# Altium schematic symbol library WCAP-FTX2.SchLib: 108 symbols (part 2 of 3)
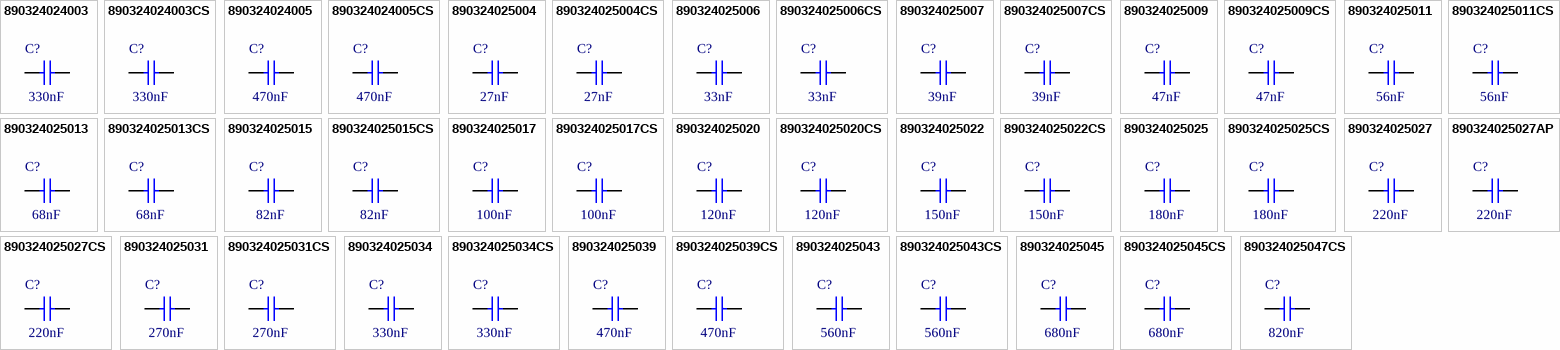
[diagram p3: symbols 890324024003 to 890324025047CS]

## 890324025009
designator C?, comment 47nF
WCAP-FTX2 Film Capacitor, THT, L18 x W5 x H11mm, 47nF, 275V; Manufacturer Part Number: 890324025009; Manufacturer: Wurth Elektronik; Capacitance Tolerance: +/-10%; Dissipation Factor @1kHz: 0.1%; Dissipation Factor @100kHz: 0.5%; Insulation Resistance: 30GΩ; Pitch: 15mm; Rate of Voltage Rise: 220V/μs; Technical Reference: MX2P015473K275ASPB16000; Category: Film Capacitors; Match Code: WCAP-FTX2; ComponentLink1Description: Website Link; ComponentLink1URL: https://www.we-online.com/redexpert/article/890324025009?ad; ComponentLink2Description: Datasheet Link; ComponentLink2URL: https://www.we-online.com/redexpert/spec/890324025009?ad; Mount: Through Hole; Min Operating Temperature: -40°C; Max Operating Temperature: 105°C; Packaging: Carton; Length: 18mm; Width: 5mm; Height: 11mm; Capacitance: 47nF; Dissipation Factor @10kHz: 0.1%; Rated Voltage (AC): 275V
footprint WCAP-FTX2_L18W5H11
simulation model 890324025009_47nF
pins: 1, 2

## 890324025009CS
designator C?, comment 47nF
WCAP-FTX2 Film Capacitor, THT, L18 x W5 x H11mm, 47nF, 275V; Manufacturer Part Number: 890324025009CS; Manufacturer: Wurth Elektronik; Capacitance Tolerance: +/-10%; Dissipation Factor @1kHz: 0.1%; Dissipation Factor @100kHz: 0.5%; Insulation Resistance: 30GΩ; Pitch: 15mm; Rate of Voltage Rise: 220V/μs; Technical Reference: MX2P015473K275ACPP46004; Category: Film Capacitors; Match Code: WCAP-FTX2; ComponentLink1Description: Website Link; ComponentLink1URL: https://www.we-online.com/redexpert/article/890324025009CS?ad; ComponentLink2Description: Datasheet Link; ComponentLink2URL: https://www.we-online.com/redexpert/spec/890324025009CS?ad; Mount: Through Hole; Min Operating Temperature: -40°C; Max Operating Temperature: 105°C; Packaging: Carton; Length: 18mm; Width: 5mm; Height: 11mm; Capacitance: 47nF; Dissipation Factor @10kHz: 0.1%; Rated Voltage (AC): 275V
footprint WCAP-FTX2_L18W5H11
simulation model 890324025009CS_47nF
pins: 1, 2

## 890324025011
designator C?, comment 56nF
WCAP-FTX2 Film Capacitor, THT, L18 x W5 x H11mm, 56nF, 275V; Manufacturer Part Number: 890324025011; Manufacturer: Wurth Elektronik; Capacitance Tolerance: +/-10%; Dissipation Factor @1kHz: 0.1%; Dissipation Factor @100kHz: 0.5%; Insulation Resistance: 30GΩ; Pitch: 15mm; Rate of Voltage Rise: 250V/μs; Technical Reference: MX2P015563K275ASPB16000; Category: Film Capacitors; Match Code: WCAP-FTX2; ComponentLink1Description: Website Link; ComponentLink1URL: https://www.we-online.com/redexpert/article/890324025011?ad; ComponentLink2Description: Datasheet Link; ComponentLink2URL: https://www.we-online.com/redexpert/spec/890324025011?ad; Mount: Through Hole; Min Operating Temperature: -40°C; Max Operating Temperature: 105°C; Packaging: Carton; Length: 18mm; Width: 5mm; Height: 11mm; Capacitance: 56nF; Dissipation Factor @10kHz: 0.1%; Rated Voltage (AC): 275V
footprint WCAP-FTX2_L18W5H11
simulation model 890324025011_56nF
pins: 1, 2

## 890324025011CS
designator C?, comment 56nF
WCAP-FTX2 Film Capacitor, THT, L18 x W5 x H11mm, 56nF, 275V; Manufacturer Part Number: 890324025011CS; Manufacturer: Wurth Elektronik; Capacitance Tolerance: +/-10%; Dissipation Factor @1kHz: 0.1%; Dissipation Factor @100kHz: 0.5%; Insulation Resistance: 30GΩ; Pitch: 15mm; Rate of Voltage Rise: 250V/μs; Technical Reference: MX2P015563K275ACPP46004; Category: Film Capacitors; Match Code: WCAP-FTX2; ComponentLink1Description: Website Link; ComponentLink1URL: https://www.we-online.com/redexpert/article/890324025011CS?ad; ComponentLink2Description: Datasheet Link; ComponentLink2URL: https://www.we-online.com/redexpert/spec/890324025011CS?ad; Mount: Through Hole; Min Operating Temperature: -40°C; Max Operating Temperature: 105°C; Packaging: Carton; Length: 18mm; Width: 5mm; Height: 11mm; Capacitance: 56nF; Dissipation Factor @10kHz: 0.1%; Rated Voltage (AC): 275V
footprint WCAP-FTX2_L18W5H11
simulation model 890324025011CS_56nF
pins: 1, 2

## 890324025013
designator C?, comment 68nF
WCAP-FTX2 Film Capacitor, THT, L18 x W6 x H12mm, 68nF, 275V; Manufacturer Part Number: 890324025013; Manufacturer: Wurth Elektronik; Capacitance Tolerance: +/-10%; Dissipation Factor @1kHz: 0.1%; Dissipation Factor @100kHz: 0.5%; Insulation Resistance: 30GΩ; Pitch: 15mm; Rate of Voltage Rise: 270V/μs; Technical Reference: MX2P015683K275ASPB16000; Category: Film Capacitors; Match Code: WCAP-FTX2; ComponentLink1Description: Website Link; ComponentLink1URL: https://www.we-online.com/redexpert/article/890324025013?ad; ComponentLink2Description: Datasheet Link; ComponentLink2URL: https://www.we-online.com/redexpert/spec/890324025013?ad; Mount: Through Hole; Min Operating Temperature: -40°C; Max Operating Temperature: 105°C; Packaging: Carton; Length: 18mm; Width: 6mm; Height: 12mm; Capacitance: 68nF; Dissipation Factor @10kHz: 0.1%; Rated Voltage (AC): 275V
footprint WCAP-FTX2_L18W6H12
simulation model 890324025013_68nF
pins: 1, 2

## 890324025013CS
designator C?, comment 68nF
WCAP-FTX2 Film Capacitor, THT, L18 x W6 x H12mm, 68nF, 275V; Manufacturer Part Number: 890324025013CS; Manufacturer: Wurth Elektronik; Capacitance Tolerance: +/-10%; Dissipation Factor @1kHz: 0.1%; Dissipation Factor @100kHz: 0.5%; Insulation Resistance: 30GΩ; Pitch: 15mm; Rate of Voltage Rise: 270V/μs; Technical Reference: MX2P015683K275ACPP46004; Category: Film Capacitors; Match Code: WCAP-FTX2; ComponentLink1Description: Website Link; ComponentLink1URL: https://www.we-online.com/redexpert/article/890324025013CS?ad; ComponentLink2Description: Datasheet Link; ComponentLink2URL: https://www.we-online.com/redexpert/spec/890324025013CS?ad; Mount: Through Hole; Min Operating Temperature: -40°C; Max Operating Temperature: 105°C; Packaging: Carton; Length: 18mm; Width: 6mm; Height: 12mm; Capacitance: 68nF; Dissipation Factor @10kHz: 0.1%; Rated Voltage (AC): 275V
footprint WCAP-FTX2_L18W6H12
simulation model 890324025013CS_68nF
pins: 1, 2

## 890324025015
designator C?, comment 82nF
WCAP-FTX2 Film Capacitor, THT, L18 x W6 x H12mm, 82nF, 275V; Manufacturer Part Number: 890324025015; Manufacturer: Wurth Elektronik; Capacitance Tolerance: +/-10%; Dissipation Factor @1kHz: 0.1%; Dissipation Factor @100kHz: 0.5%; Insulation Resistance: 30GΩ; Pitch: 15mm; Rate of Voltage Rise: 290V/μs; Technical Reference: MX2P015823K275ASPB16000; Category: Film Capacitors; Match Code: WCAP-FTX2; ComponentLink1Description: Website Link; ComponentLink1URL: https://www.we-online.com/redexpert/article/890324025015?ad; ComponentLink2Description: Datasheet Link; ComponentLink2URL: https://www.we-online.com/redexpert/spec/890324025015?ad; Mount: Through Hole; Min Operating Temperature: -40°C; Max Operating Temperature: 105°C; Packaging: Carton; Length: 18mm; Width: 6mm; Height: 12mm; Capacitance: 82nF; Dissipation Factor @10kHz: 0.1%; Rated Voltage (AC): 275V
footprint WCAP-FTX2_L18W6H12
simulation model 890324025015_82nF
pins: 1, 2

## 890324025015CS
designator C?, comment 82nF
WCAP-FTX2 Film Capacitor, THT, L18 x W6 x H12mm, 82nF, 275V; Manufacturer Part Number: 890324025015CS; Manufacturer: Wurth Elektronik; Capacitance Tolerance: +/-10%; Dissipation Factor @1kHz: 0.1%; Dissipation Factor @100kHz: 0.5%; Insulation Resistance: 30GΩ; Pitch: 15mm; Rate of Voltage Rise: 290V/μs; Technical Reference: MX2P015823K275ACPP46004; Category: Film Capacitors; Match Code: WCAP-FTX2; ComponentLink1Description: Website Link; ComponentLink1URL: https://www.we-online.com/redexpert/article/890324025015CS?ad; ComponentLink2Description: Datasheet Link; ComponentLink2URL: https://www.we-online.com/redexpert/spec/890324025015CS?ad; Mount: Through Hole; Min Operating Temperature: -40°C; Max Operating Temperature: 105°C; Packaging: Carton; Length: 18mm; Width: 6mm; Height: 12mm; Capacitance: 82nF; Dissipation Factor @10kHz: 0.1%; Rated Voltage (AC): 275V
footprint WCAP-FTX2_L18W6H12
simulation model 890324025015CS_82nF
pins: 1, 2

## 890324025017
designator C?, comment 100nF
WCAP-FTX2 Film Capacitor, THT, L18 x W6 x H12mm, 100nF, 275V; Manufacturer Part Number: 890324025017; Manufacturer: Wurth Elektronik; Capacitance Tolerance: +/-10%; Dissipation Factor @1kHz: 0.1%; Dissipation Factor @100kHz: 0.5%; Insulation Resistance: 30GΩ; Pitch: 15mm; Rate of Voltage Rise: 300V/μs; Technical Reference: MX2P015104K275ASPB16000; Category: Film Capacitors; Match Code: WCAP-FTX2; ComponentLink1Description: Website Link; ComponentLink1URL: https://www.we-online.com/redexpert/article/890324025017?ad; ComponentLink2Description: Datasheet Link; ComponentLink2URL: https://www.we-online.com/redexpert/spec/890324025017?ad; Mount: Through Hole; Min Operating Temperature: -40°C; Max Operating Temperature: 105°C; Packaging: Carton; Length: 18mm; Width: 6mm; Height: 12mm; Capacitance: 100nF; Dissipation Factor @10kHz: 0.1%; Rated Voltage (AC): 275V
footprint WCAP-FTX2_L18W6H12
simulation model 890324025017_100nF
pins: 1, 2

## 890324025017CS
designator C?, comment 100nF
WCAP-FTX2 Film Capacitor, THT, L18 x W6 x H12mm, 100nF, 275V; Manufacturer Part Number: 890324025017CS; Manufacturer: Wurth Elektronik; Capacitance Tolerance: +/-10%; Dissipation Factor @1kHz: 0.1%; Dissipation Factor @100kHz: 0.5%; Insulation Resistance: 30GΩ; Pitch: 15mm; Rate of Voltage Rise: 300V/μs; Technical Reference: MX2P015104K275ACPP46004; Category: Film Capacitors; Match Code: WCAP-FTX2; ComponentLink1Description: Website Link; ComponentLink1URL: https://www.we-online.com/redexpert/article/890324025017CS?ad; ComponentLink2Description: Datasheet Link; ComponentLink2URL: https://www.we-online.com/redexpert/spec/890324025017CS?ad; Mount: Through Hole; Min Operating Temperature: -40°C; Max Operating Temperature: 105°C; Packaging: Carton; Length: 18mm; Width: 6mm; Height: 12mm; Capacitance: 100nF; Dissipation Factor @10kHz: 0.1%; Rated Voltage (AC): 275V
footprint WCAP-FTX2_L18W6H12
simulation model 890324025017CS_100nF
pins: 1, 2

## 890324025020
designator C?, comment 120nF
WCAP-FTX2 Film Capacitor, THT, L18 x W7.5 x H13.5mm, 120nF, 275V; Manufacturer Part Number: 890324025020; Manufacturer: Wurth Elektronik; Capacitance Tolerance: +/-10%; Dissipation Factor @1kHz: 0.1%; Dissipation Factor @10kHz: 0.2%; Dissipation Factor @100kHz: 2%; Insulation Resistance: 30GΩ; Pitch: 15mm; Rate of Voltage Rise: 300V/μs; Technical Reference: MX2P015124K275ASPB16000; Category: Film Capacitors; Match Code: WCAP-FTX2; ComponentLink1Description: Website Link; ComponentLink1URL: https://www.we-online.com/redexpert/article/890324025020?ad; ComponentLink2Description: Datasheet Link; ComponentLink2URL: https://www.we-online.com/redexpert/spec/890324025020?ad; Mount: Through Hole; Min Operating Temperature: -40°C; Max Operating Temperature: 105°C; Packaging: Carton; Length: 18mm; Width: 7.5mm; Height: 13.5mm; Capacitance: 120nF; Rated Voltage (AC): 275V
footprint WCAP-FTX2_L18W7.5H13.5
simulation model 890324025020_120nF
pins: 1, 2

## 890324025020CS
designator C?, comment 120nF
WCAP-FTX2 Film Capacitor, THT, L18 x W7.5 x H13.5mm, 120nF, 275V; Manufacturer Part Number: 890324025020CS; Manufacturer: Wurth Elektronik; Capacitance Tolerance: +/-10%; Dissipation Factor @1kHz: 0.1%; Dissipation Factor @10kHz: 0.2%; Dissipation Factor @100kHz: 2%; Insulation Resistance: 30GΩ; Pitch: 15mm; Rate of Voltage Rise: 300V/μs; Technical Reference: MX2P015124K275ACPP46004; Category: Film Capacitors; Match Code: WCAP-FTX2; ComponentLink1Description: Website Link; ComponentLink1URL: https://www.we-online.com/redexpert/article/890324025020CS?ad; ComponentLink2Description: Datasheet Link; ComponentLink2URL: https://www.we-online.com/redexpert/spec/890324025020CS?ad; Mount: Through Hole; Min Operating Temperature: -40°C; Max Operating Temperature: 105°C; Packaging: Carton; Length: 18mm; Width: 7.5mm; Height: 13.5mm; Capacitance: 120nF; Rated Voltage (AC): 275V
footprint WCAP-FTX2_L18W7.5H13.5
simulation model 890324025020CS_120nF
pins: 1, 2

## 890324025022
designator C?, comment 150nF
WCAP-FTX2 Film Capacitor, THT, L18 x W6 x H12mm, 150nF, 275V; Manufacturer Part Number: 890324025022; Manufacturer: Wurth Elektronik; Capacitance Tolerance: +/-10%; Dissipation Factor @1kHz: 0.1%; Dissipation Factor @10kHz: 0.2%; Dissipation Factor @100kHz: 2%; Insulation Resistance: 30GΩ; Pitch: 15mm; Rate of Voltage Rise: 210V/μs; Technical Reference: MX2P015154K275ASPB16000; Category: Film Capacitors; Match Code: WCAP-FTX2; ComponentLink1Description: Website Link; ComponentLink1URL: https://www.we-online.com/redexpert/article/890324025022?ad; ComponentLink2Description: Datasheet Link; ComponentLink2URL: https://www.we-online.com/redexpert/spec/890324025022?ad; Mount: Through Hole; Min Operating Temperature: -40°C; Max Operating Temperature: 105°C; Packaging: Carton; Length: 18mm; Width: 6mm; Height: 12mm; Capacitance: 150nF; Rated Voltage (AC): 275V
footprint WCAP-FTX2_L18W6H12
simulation model 890324025022_150nF
pins: 1, 2

## 890324025022CS
designator C?, comment 150nF
WCAP-FTX2 Film Capacitor, THT, L18 x W6 x H12mm, 150nF, 275V; Manufacturer Part Number: 890324025022CS; Manufacturer: Wurth Elektronik; Capacitance Tolerance: +/-10%; Dissipation Factor @1kHz: 0.1%; Dissipation Factor @10kHz: 0.2%; Dissipation Factor @100kHz: 2%; Insulation Resistance: 30GΩ; Pitch: 15mm; Rate of Voltage Rise: 210V/μs; Technical Reference: MX2P015154K275ACPP46004; Category: Film Capacitors; Match Code: WCAP-FTX2; ComponentLink1Description: Website Link; ComponentLink1URL: https://www.we-online.com/redexpert/article/890324025022CS?ad; ComponentLink2Description: Datasheet Link; ComponentLink2URL: https://www.we-online.com/redexpert/spec/890324025022CS?ad; Mount: Through Hole; Min Operating Temperature: -40°C; Max Operating Temperature: 105°C; Packaging: Carton; Length: 18mm; Width: 6mm; Height: 12mm; Capacitance: 150nF; Rated Voltage (AC): 275V
footprint WCAP-FTX2_L18W6H12
simulation model 890324025022CS_150nF
pins: 1, 2

## 890324025025
designator C?, comment 180nF
WCAP-FTX2 Film Capacitor, THT, L18 x W6 x H12mm, 180nF, 275V; Manufacturer Part Number: 890324025025; Manufacturer: Wurth Elektronik; Capacitance Tolerance: +/-10%; Dissipation Factor @1kHz: 0.1%; Dissipation Factor @10kHz: 0.2%; Dissipation Factor @100kHz: 2%; Insulation Resistance: 30GΩ; Pitch: 15mm; Rate of Voltage Rise: 230V/μs; Technical Reference: MX2P015184K275ASPB15000; Category: Film Capacitors; Match Code: WCAP-FTX2; ComponentLink1Description: Website Link; ComponentLink1URL: https://www.we-online.com/redexpert/article/890324025025?ad; ComponentLink2Description: Datasheet Link; ComponentLink2URL: https://www.we-online.com/redexpert/spec/890324025025?ad; Mount: Through Hole; Min Operating Temperature: -40°C; Max Operating Temperature: 105°C; Packaging: Carton; Length: 18mm; Width: 6mm; Height: 12mm; Capacitance: 180nF; Rated Voltage (AC): 275V
footprint WCAP-FTX2_L18W6H12
simulation model 890324025025_180nF
pins: 1, 2

## 890324025025CS
designator C?, comment 180nF
WCAP-FTX2 Film Capacitor, THT, L18 x W6 x H12mm, 180nF, 275V; Manufacturer Part Number: 890324025025CS; Manufacturer: Wurth Elektronik; Capacitance Tolerance: +/-10%; Dissipation Factor @1kHz: 0.1%; Dissipation Factor @10kHz: 0.2%; Dissipation Factor @100kHz: 2%; Insulation Resistance: 30GΩ; Pitch: 15mm; Rate of Voltage Rise: 230V/μs; Technical Reference: MX2P015184K275ACPP45004; Category: Film Capacitors; Match Code: WCAP-FTX2; ComponentLink1Description: Website Link; ComponentLink1URL: https://www.we-online.com/redexpert/article/890324025025CS?ad; ComponentLink2Description: Datasheet Link; ComponentLink2URL: https://www.we-online.com/redexpert/spec/890324025025CS?ad; Mount: Through Hole; Min Operating Temperature: -40°C; Max Operating Temperature: 105°C; Packaging: Carton; Length: 18mm; Width: 6mm; Height: 12mm; Capacitance: 180nF; Rated Voltage (AC): 275V
footprint WCAP-FTX2_L18W6H12
simulation model 890324025025CS_180nF
pins: 1, 2

## 890324025027
designator C?, comment 220nF
WCAP-FTX2 Film Capacitor, THT, L18 x W6 x H11.5mm, 220nF, 275V; Manufacturer Part Number: 890324025027; Manufacturer: Wurth Elektronik; Capacitance Tolerance: +/-10%; Dissipation Factor @1kHz: 0.1%; Dissipation Factor @10kHz: 0.2%; Dissipation Factor @100kHz: 2%; Insulation Resistance: 30GΩ; Pitch: 15mm; Rate of Voltage Rise: 180V/μs; Technical Reference: MX2P015224K275ASPB15000; Category: Film Capacitors; Match Code: WCAP-FTX2; ComponentLink1Description: Website Link; ComponentLink1URL: https://www.we-online.com/redexpert/article/890324025027?ad; ComponentLink2Description: Datasheet Link; ComponentLink2URL: https://www.we-online.com/redexpert/spec/890324025027?ad; Mount: Through Hole; Min Operating Temperature: -40°C; Max Operating Temperature: 105°C; Packaging: Carton; Length: 18mm; Width: 6mm; Height: 11.5mm; Capacitance: 220nF; Rated Voltage (AC): 275V
footprint WCAP-FTX2_L18W6H11.5
simulation model 890324025027_220nF
pins: 1, 2

## 890324025027AP
designator C?, comment 220nF
WCAP-FTX2 Film Capacitor, THT, L18 x W6 x H11.5mm, 220nF, 275V; Manufacturer Part Number: 890324025027AP; Manufacturer: Wurth Elektronik; Capacitance Tolerance: +/-10%; Dissipation Factor @1kHz: 0.1%; Dissipation Factor @10kHz: 0.3%; Dissipation Factor @100kHz: 3%; Insulation Resistance: 30GΩ; Pitch: 15mm; Rate of Voltage Rise: 180V/μs; Technical Reference: MX2P015224K275ASPA55000; Category: Film Capacitors; Match Code: WCAP-FTX2; ComponentLink1Description: Website Link; ComponentLink1URL: https://www.we-online.com/redexpert/article/890324025027AP?ad; ComponentLink2Description: Datasheet Link; ComponentLink2URL: https://www.we-online.com/redexpert/spec/890324025027AP?ad; Mount: Through Hole; Min Operating Temperature: -40°C; Max Operating Temperature: 105°C; Packaging: Ammo Pack; Length: 18mm; Width: 6mm; Height: 11.5mm; Capacitance: 220nF; Rated Voltage (AC): 275V
footprint WCAP-FTX2_L18W6H11.5
pins: 1, 2

## 890324025027CS
designator C?, comment 220nF
WCAP-FTX2 Film Capacitor, THT, L18 x W6 x H11.5mm, 220nF, 275V; Manufacturer Part Number: 890324025027CS; Manufacturer: Wurth Elektronik; Capacitance Tolerance: +/-10%; Dissipation Factor @1kHz: 0.1%; Dissipation Factor @10kHz: 0.2%; Dissipation Factor @100kHz: 2%; Insulation Resistance: 30GΩ; Pitch: 15mm; Rate of Voltage Rise: 180V/μs; Technical Reference: MX2P015224K275ACPP45004; Category: Film Capacitors; Match Code: WCAP-FTX2; ComponentLink1Description: Website Link; ComponentLink1URL: https://www.we-online.com/redexpert/article/890324025027CS?ad; ComponentLink2Description: Datasheet Link; ComponentLink2URL: https://www.we-online.com/redexpert/spec/890324025027CS?ad; Mount: Through Hole; Min Operating Temperature: -40°C; Max Operating Temperature: 105°C; Packaging: Carton; Length: 18mm; Width: 6mm; Height: 11.5mm; Capacitance: 220nF; Rated Voltage (AC): 275V
footprint WCAP-FTX2_L18W6H11.5
simulation model 890324025027CS_220nF
pins: 1, 2

## 890324025031
designator C?, comment 270nF
WCAP-FTX2 Film Capacitor, THT, L18 x W7.5 x H14.5mm, 270nF, 275V; Manufacturer Part Number: 890324025031; Manufacturer: Wurth Elektronik; Capacitance Tolerance: +/-10%; Dissipation Factor @1kHz: 0.1%; Dissipation Factor @10kHz: 0.2%; Dissipation Factor @100kHz: 2%; Insulation Resistance: 30GΩ; Pitch: 15mm; Rate of Voltage Rise: 250V/μs; Technical Reference: MX2P015274K275ASPB15000; Category: Film Capacitors; Match Code: WCAP-FTX2; ComponentLink1Description: Website Link; ComponentLink1URL: https://www.we-online.com/redexpert/article/890324025031?ad; ComponentLink2Description: Datasheet Link; ComponentLink2URL: https://www.we-online.com/redexpert/spec/890324025031?ad; Mount: Through Hole; Min Operating Temperature: -40°C; Max Operating Temperature: 105°C; Packaging: Carton; Length: 18mm; Width: 7.5mm; Height: 14.5mm; Capacitance: 270nF; Rated Voltage (AC): 275V
footprint WCAP-FTX2_L18W7.5H14.5
simulation model 890324025031_270nF
pins: 1, 2

## 890324025031CS
designator C?, comment 270nF
WCAP-FTX2 Film Capacitor, THT, L18 x W7.5 x H14.5mm, 270nF, 275V; Manufacturer Part Number: 890324025031CS; Manufacturer: Wurth Elektronik; Capacitance Tolerance: +/-10%; Dissipation Factor @1kHz: 0.1%; Dissipation Factor @10kHz: 0.2%; Dissipation Factor @100kHz: 2%; Insulation Resistance: 30GΩ; Pitch: 15mm; Rate of Voltage Rise: 250V/μs; Technical Reference: MX2P015274K275ACPP45004; Category: Film Capacitors; Match Code: WCAP-FTX2; ComponentLink1Description: Website Link; ComponentLink1URL: https://www.we-online.com/redexpert/article/890324025031CS?ad; ComponentLink2Description: Datasheet Link; ComponentLink2URL: https://www.we-online.com/redexpert/spec/890324025031CS?ad; Mount: Through Hole; Min Operating Temperature: -40°C; Max Operating Temperature: 105°C; Packaging: Carton; Length: 18mm; Width: 7.5mm; Height: 14.5mm; Capacitance: 270nF; Rated Voltage (AC): 275V
footprint WCAP-FTX2_L18W7.5H14.5
simulation model 890324025031CS_270nF
pins: 1, 2

## 890324025034
designator C?, comment 330nF
WCAP-FTX2 Film Capacitor, THT, L18 x W8.5 x H14.5mm, 330nF, 275V; Manufacturer Part Number: 890324025034; Manufacturer: Wurth Elektronik; Capacitance Tolerance: +/-10%; Dissipation Factor @1kHz: 0.1%; Dissipation Factor @10kHz: 0.2%; Dissipation Factor @100kHz: 2%; Insulation Resistance: 30GΩ; Pitch: 15mm; Rate of Voltage Rise: 260V/μs; Technical Reference: MX2P015334K275ASPB16000; Category: Film Capacitors; Match Code: WCAP-FTX2; ComponentLink1Description: Website Link; ComponentLink1URL: https://www.we-online.com/redexpert/article/890324025034?ad; ComponentLink2Description: Datasheet Link; ComponentLink2URL: https://www.we-online.com/redexpert/spec/890324025034?ad; Mount: Through Hole; Min Operating Temperature: -40°C; Max Operating Temperature: 105°C; Packaging: Carton; Length: 18mm; Width: 8.5mm; Height: 14.5mm; Capacitance: 330nF; Rated Voltage (AC): 275V
footprint WCAP-FTX2_L18W8.5H14.5
simulation model 890324025034_330nF
pins: 1, 2

## 890324025034CS
designator C?, comment 330nF
WCAP-FTX2 Film Capacitor, THT, L18 x W8.5 x H14.5mm, 330nF, 275V; Manufacturer Part Number: 890324025034CS; Manufacturer: Wurth Elektronik; Capacitance Tolerance: +/-10%; Dissipation Factor @1kHz: 0.1%; Dissipation Factor @10kHz: 0.2%; Dissipation Factor @100kHz: 2%; Insulation Resistance: 30GΩ; Pitch: 15mm; Rate of Voltage Rise: 260V/μs; Technical Reference: MX2P015334K275ACPP46004; Category: Film Capacitors; Match Code: WCAP-FTX2; ComponentLink1Description: Website Link; ComponentLink1URL: https://www.we-online.com/redexpert/article/890324025034CS?ad; ComponentLink2Description: Datasheet Link; ComponentLink2URL: https://www.we-online.com/redexpert/spec/890324025034CS?ad; Mount: Through Hole; Min Operating Temperature: -40°C; Max Operating Temperature: 105°C; Packaging: Carton; Length: 18mm; Width: 8.5mm; Height: 14.5mm; Capacitance: 330nF; Rated Voltage (AC): 275V
footprint WCAP-FTX2_L18W8.5H14.5
simulation model 890324025034CS_330nF
pins: 1, 2

## 890324025039
designator C?, comment 470nF
WCAP-FTX2 Film Capacitor, THT, L18 x W8 x H14mm, 470nF, 275V; Manufacturer Part Number: 890324025039; Manufacturer: Wurth Elektronik; Capacitance Tolerance: +/-10%; Dissipation Factor @1kHz: 0.1%; Dissipation Factor @10kHz: 0.2%; Dissipation Factor @100kHz: 2%; Insulation Resistance: 30GΩ; Pitch: 15mm; Rate of Voltage Rise: 220V/μs; Technical Reference: MX2P015474K275ASPB16000; Category: Film Capacitors; Match Code: WCAP-FTX2; ComponentLink1Description: Website Link; ComponentLink1URL: https://www.we-online.com/redexpert/article/890324025039?ad; ComponentLink2Description: Datasheet Link; ComponentLink2URL: https://www.we-online.com/redexpert/spec/890324025039?ad; Mount: Through Hole; Min Operating Temperature: -40°C; Max Operating Temperature: 105°C; Packaging: Carton; Length: 18mm; Width: 8mm; Height: 14mm; Capacitance: 470nF; Rated Voltage (AC): 275V
footprint WCAP-FTX2_L18W8H14
simulation model 890324025039_470nF
pins: 1, 2

## 890324025039CS
designator C?, comment 470nF
WCAP-FTX2 Film Capacitor, THT, L18 x W8 x H14mm, 470nF, 275V; Manufacturer Part Number: 890324025039CS; Manufacturer: Wurth Elektronik; Capacitance Tolerance: +/-10%; Dissipation Factor @1kHz: 0.1%; Dissipation Factor @10kHz: 0.2%; Dissipation Factor @100kHz: 2%; Insulation Resistance: 30GΩ; Pitch: 15mm; Rate of Voltage Rise: 220V/μs; Technical Reference: MX2P015474K275ACPP46004; Category: Film Capacitors; Match Code: WCAP-FTX2; ComponentLink1Description: Website Link; ComponentLink1URL: https://www.we-online.com/redexpert/article/890324025039CS?ad; ComponentLink2Description: Datasheet Link; ComponentLink2URL: https://www.we-online.com/redexpert/spec/890324025039CS?ad; Mount: Through Hole; Min Operating Temperature: -40°C; Max Operating Temperature: 105°C; Packaging: Carton; Length: 18mm; Width: 8mm; Height: 14mm; Capacitance: 470nF; Rated Voltage (AC): 275V
footprint WCAP-FTX2_L18W8H14
simulation model 890324025039CS_470nF
pins: 1, 2

## 890324025043
designator C?, comment 560nF
WCAP-FTX2 Film Capacitor, THT, L18 x W9 x H15mm, 560nF, 275V; Manufacturer Part Number: 890324025043; Manufacturer: Wurth Elektronik; Capacitance Tolerance: +/-10%; Dissipation Factor @1kHz: 0.1%; Dissipation Factor @10kHz: 0.7%; Insulation Resistance: 30GΩ; Pitch: 15mm; Rate of Voltage Rise: 220V/μs; Technical Reference: MX2P015564K275ASPB15000; Category: Film Capacitors; Match Code: WCAP-FTX2; ComponentLink1Description: Website Link; ComponentLink1URL: https://www.we-online.com/redexpert/article/890324025043?ad; ComponentLink2Description: Datasheet Link; ComponentLink2URL: https://www.we-online.com/redexpert/spec/890324025043?ad; Mount: Through Hole; Min Operating Temperature: -40°C; Max Operating Temperature: 105°C; Packaging: Carton; Length: 18mm; Width: 9mm; Height: 15mm; Capacitance: 560nF; Rated Voltage (AC): 275V
footprint WCAP-FTX2_L18W9H15
simulation model 890324025043_560nF
pins: 1, 2

## 890324025043CS
designator C?, comment 560nF
WCAP-FTX2 Film Capacitor, THT, L18 x W9 x H15mm, 560nF, 275V; Manufacturer Part Number: 890324025043CS; Manufacturer: Wurth Elektronik; Capacitance Tolerance: +/-10%; Dissipation Factor @1kHz: 0.1%; Dissipation Factor @10kHz: 0.7%; Insulation Resistance: 30GΩ; Pitch: 15mm; Rate of Voltage Rise: 220V/μs; Technical Reference: MX2P015564K275ACPP45004; Category: Film Capacitors; Match Code: WCAP-FTX2; ComponentLink1Description: Website Link; ComponentLink1URL: https://www.we-online.com/redexpert/article/890324025043CS?ad; ComponentLink2Description: Datasheet Link; ComponentLink2URL: https://www.we-online.com/redexpert/spec/890324025043CS?ad; Mount: Through Hole; Min Operating Temperature: -40°C; Max Operating Temperature: 105°C; Packaging: Carton; Length: 18mm; Width: 9mm; Height: 15mm; Capacitance: 560nF; Rated Voltage (AC): 275V
footprint WCAP-FTX2_L18W9H15
simulation model 890324025043CS_560nF
pins: 1, 2

## 890324025045
designator C?, comment 680nF
WCAP-FTX2 Film Capacitor, THT, L18 x W10 x H16mm, 680nF, 275V; Manufacturer Part Number: 890324025045; Manufacturer: Wurth Elektronik; Capacitance Tolerance: +/-10%; Dissipation Factor @1kHz: 0.1%; Dissipation Factor @10kHz: 0.2%; Insulation Resistance: 30GΩ; Pitch: 15mm; Rate of Voltage Rise: 230V/μs; Technical Reference: MX2P015684K275ASPB15000; Category: Film Capacitors; Match Code: WCAP-FTX2; ComponentLink1Description: Website Link; ComponentLink1URL: https://www.we-online.com/redexpert/article/890324025045?ad; ComponentLink2Description: Datasheet Link; ComponentLink2URL: https://www.we-online.com/redexpert/spec/890324025045?ad; Mount: Through Hole; Min Operating Temperature: -40°C; Max Operating Temperature: 105°C; Packaging: Carton; Length: 18mm; Width: 10mm; Height: 16mm; Capacitance: 680nF; Rated Voltage (AC): 275V
footprint WCAP-FTX2_L18W10H16
simulation model 890324025045_680nF
pins: 1, 2

## 890324025045CS
designator C?, comment 680nF
WCAP-FTX2 Film Capacitor, THT, L18 x W10 x H16mm, 680nF, 275V; Manufacturer Part Number: 890324025045CS; Manufacturer: Wurth Elektronik; Capacitance Tolerance: +/-10%; Dissipation Factor @1kHz: 0.1%; Dissipation Factor @10kHz: 0.7%; Insulation Resistance: 30GΩ; Pitch: 15mm; Rate of Voltage Rise: 230V/μs; Technical Reference: MX2P015684K275ACPP45004; Category: Film Capacitors; Match Code: WCAP-FTX2; ComponentLink1Description: Website Link; ComponentLink1URL: https://www.we-online.com/redexpert/article/890324025045CS?ad; ComponentLink2Description: Datasheet Link; ComponentLink2URL: https://www.we-online.com/redexpert/spec/890324025045CS?ad; Mount: Through Hole; Min Operating Temperature: -40°C; Max Operating Temperature: 105°C; Packaging: Carton; Length: 18mm; Width: 10mm; Height: 16mm; Capacitance: 680nF; Rated Voltage (AC): 275V
footprint WCAP-FTX2_L18W10H16
simulation model 890324025045CS_680nF
pins: 1, 2

## 890324025047CS
designator C?, comment 820nF
WCAP-FTX2 Film Capacitor, THT, L18 x W10 x H17.5mm, 820nF, 275V; Manufacturer Part Number: 890324025047CS; Manufacturer: Wurth Elektronik; Capacitance Tolerance: +/-10%; Dissipation Factor @1kHz: 0.1%; Dissipation Factor @10kHz: 0.7%; Insulation Resistance: 12.2GΩ; Pitch: 15mm; Rate of Voltage Rise: 230V/μs; Technical Reference: MX2P015824K275ACPP35004; Category: Film Capacitors; Match Code: WCAP-FTX2; ComponentLink1Description: Website Link; ComponentLink1URL: https://www.we-online.com/redexpert/article/890324025047CS?ad; ComponentLink2Description: Datasheet Link; ComponentLink2URL: https://www.we-online.com/redexpert/spec/890324025047CS?ad; Mount: Through Hole; Min Operating Temperature: -40°C; Max Operating Temperature: 105°C; Packaging: Carton; Length: 18mm; Width: 10mm; Height: 17.5mm; Capacitance: 820nF; Rated Voltage (AC): 275V
footprint WCAP-FTX2_L18W10H17.5
simulation model 890324025047CS_820nF
pins: 1, 2

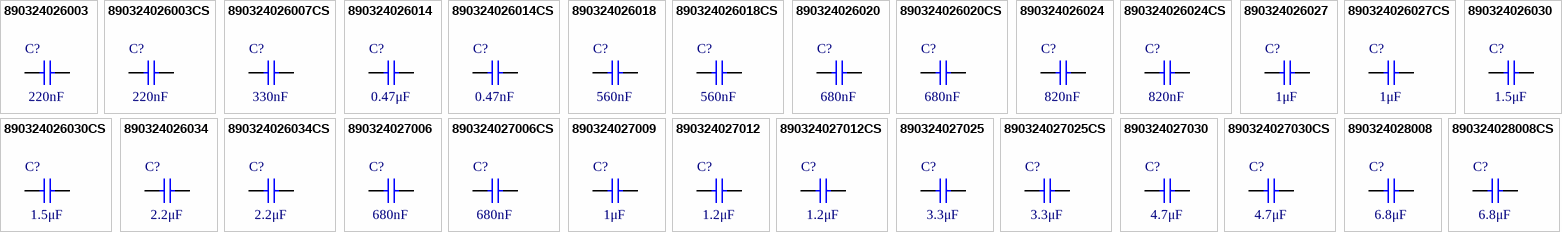
[diagram p2: symbols 890324026003 to 890324028008CS]

## 890324026003
designator C?, comment 220nF
WCAP-FTX2 Film Capacitor, THT, L26 x W6 x H15mm, 220nF, 275V; Manufacturer Part Number: 890324026003; Manufacturer: Wurth Elektronik; Capacitance Tolerance: +/-10%; Dissipation Factor @1kHz: 0.1%; Dissipation Factor @10kHz: 0.2%; Dissipation Factor @100kHz: 2%; Insulation Resistance: 30GΩ; Pitch: 22.5mm; Rate of Voltage Rise: 160V/μs; Technical Reference: MX2P225224K275ASPB46000; Category: Film Capacitors; Match Code: WCAP-FTX2; ComponentLink1Description: Website Link; ComponentLink1URL: https://www.we-online.com/redexpert/article/890324026003?ad; ComponentLink2Description: Datasheet Link; ComponentLink2URL: https://www.we-online.com/redexpert/spec/890324026003?ad; Mount: Through Hole; Min Operating Temperature: -40°C; Max Operating Temperature: 105°C; Packaging: Carton; Length: 26mm; Width: 6mm; Height: 15mm; Capacitance: 220nF; Rated Voltage (AC): 275V
footprint WCAP-FTX2_L26W6H15
simulation model 890324026003_220nF
pins: 1, 2

## 890324026003CS
designator C?, comment 220nF
WCAP-FTX2 Film Capacitor, THT, L26 x W6 x H15mm, 220nF, 275V; Manufacturer Part Number: 890324026003CS; Manufacturer: Wurth Elektronik; Capacitance Tolerance: +/-10%; Dissipation Factor @1kHz: 0.1%; Dissipation Factor @10kHz: 0.2%; Dissipation Factor @100kHz: 2%; Insulation Resistance: 30GΩ; Pitch: 22.5mm; Rate of Voltage Rise: 160V/μs; Technical Reference: MX2P225224K275ACPP46004; Category: Film Capacitors; Match Code: WCAP-FTX2; ComponentLink1Description: Website Link; ComponentLink1URL: https://www.we-online.com/redexpert/article/890324026003CS?ad; ComponentLink2Description: Datasheet Link; ComponentLink2URL: https://www.we-online.com/redexpert/spec/890324026003CS?ad; Mount: Through Hole; Min Operating Temperature: -40°C; Max Operating Temperature: 105°C; Packaging: Carton; Length: 26mm; Width: 6mm; Height: 15mm; Capacitance: 220nF; Rated Voltage (AC): 275V
footprint WCAP-FTX2_L26W6H15
simulation model 890324026003CS_220nF
pins: 1, 2

## 890324026007CS
designator C?, comment 330nF
WCAP-FTX2 Film Capacitor, THT, L26 x W6 x H12mm, 330nF, 275V; Manufacturer Part Number: 890324026007CS; Manufacturer: Wurth Elektronik; Capacitance Tolerance: +/-10%; Dissipation Factor @1kHz: 0.1%; Dissipation Factor @10kHz: 0.2%; Dissipation Factor @100kHz: 2%; Insulation Resistance: 30GΩ; Pitch: 22.5mm; Rate of Voltage Rise: 140V/μs; Technical Reference: MX2P225334K275ACPP45004; Category: Film Capacitors; Match Code: WCAP-FTX2; ComponentLink1Description: Website Link; ComponentLink1URL: https://www.we-online.com/redexpert/article/890324026007CS?ad; ComponentLink2Description: Datasheet Link; ComponentLink2URL: https://www.we-online.com/redexpert/spec/890324026007CS?ad; Mount: Through Hole; Min Operating Temperature: -40°C; Max Operating Temperature: 105°C; Packaging: Carton; Length: 26mm; Width: 6mm; Height: 12mm; Capacitance: 330nF; Rated Voltage (AC): 275V
footprint WCAP-FTX2_L26W6H12
simulation model 890324026007CS_330nF
pins: 1, 2

## 890324026014
designator C?, comment 0.47μF
WCAP-FTX2 Film Capacitor, THT, L26 x W7 x H14.5mm, 0.47μF, 275V; Manufacturer Part Number: 890324026014; Manufacturer: Wurth Elektronik; Capacitance Tolerance: +/-10%; Dissipation Factor @1kHz: 0.1%; Dissipation Factor @10kHz: 0.2%; Dissipation Factor @100kHz: 2%; Insulation Resistance: 21.28GΩ; Pitch: 22.5mm; Rate of Voltage Rise: 150V/μs; Technical Reference: MX2P225474K275ASPB45000; Category: Film Capacitors; Match Code: WCAP-FTX2; ComponentLink1Description: Website Link; ComponentLink1URL: https://www.we-online.com/redexpert/article/890324026014?ad; ComponentLink2Description: Datasheet Link; ComponentLink2URL: https://www.we-online.com/redexpert/spec/890324026014?ad; Mount: Through Hole; Min Operating Temperature: -40°C; Max Operating Temperature: 105°C; Packaging: Carton; Length: 26mm; Width: 7mm; Height: 14.5mm; Capacitance: 0.47μF; Rated Voltage (AC): 275V
footprint WCAP-FTX2_L26W7H14.5
pins: 1, 2

## 890324026014CS
designator C?, comment 0.47nF
WCAP-FTX2 Film Capacitor, THT, L26 x W7 x H14.5mm, 0.47nF, 275V; Manufacturer Part Number: 890324026014CS; Manufacturer: Wurth Elektronik; Capacitance Tolerance: +/-10%; Dissipation Factor @1kHz: 0.1%; Dissipation Factor @10kHz: 0.2%; Dissipation Factor @100kHz: 2%; Insulation Resistance: 30GΩ; Pitch: 22.5mm; Rate of Voltage Rise: 150V/μs; Technical Reference: MX2P225474K275ACPP45004; Category: Film Capacitors; Match Code: WCAP-FTX2; ComponentLink1Description: Website Link; ComponentLink1URL: https://www.we-online.com/redexpert/article/890324026014CS?ad; ComponentLink2Description: Datasheet Link; ComponentLink2URL: https://www.we-online.com/redexpert/spec/890324026014CS?ad; Mount: Through Hole; Min Operating Temperature: -40°C; Max Operating Temperature: 105°C; Packaging: Carton; Length: 26mm; Width: 7mm; Height: 14.5mm; Capacitance: 0.47nF; Rated Voltage (AC): 275V
footprint WCAP-FTX2_L26W7H14.5
pins: 1, 2

## 890324026018
designator C?, comment 560nF
WCAP-FTX2 Film Capacitor, THT, L26 x W7.5 x H16.5mm, 560nF, 275V; Manufacturer Part Number: 890324026018; Manufacturer: Wurth Elektronik; Capacitance Tolerance: +/-10%; Dissipation Factor @1kHz: 0.1%; Dissipation Factor @10kHz: 0.7%; Insulation Resistance: 17.86GΩ; Pitch: 22.5mm; Rate of Voltage Rise: 160V/μs; Technical Reference: MX2P225564K275ASPB46000; Category: Film Capacitors; Match Code: WCAP-FTX2; ComponentLink1Description: Website Link; ComponentLink1URL: https://www.we-online.com/redexpert/article/890324026018?ad; ComponentLink2Description: Datasheet Link; ComponentLink2URL: https://www.we-online.com/redexpert/spec/890324026018?ad; Mount: Through Hole; Min Operating Temperature: -40°C; Max Operating Temperature: 105°C; Packaging: Carton; Length: 26mm; Width: 7.5mm; Height: 16.5mm; Capacitance: 560nF; Rated Voltage (AC): 275V
footprint WCAP-FTX2_L26W7.5H16.5
simulation model 890324026018_560nF
pins: 1, 2

## 890324026018CS
designator C?, comment 560nF
WCAP-FTX2 Film Capacitor, THT, L26 x W7.5 x H16.5mm, 560nF, 275V; Manufacturer Part Number: 890324026018CS; Manufacturer: Wurth Elektronik; Capacitance Tolerance: +/-10%; Dissipation Factor @1kHz: 0.1%; Dissipation Factor @10kHz: 0.7%; Insulation Resistance: 17.86GΩ; Pitch: 22.5mm; Rate of Voltage Rise: 160V/μs; Technical Reference: MX2P225564K275ACPP36004; Category: Film Capacitors; Match Code: WCAP-FTX2; ComponentLink1Description: Website Link; ComponentLink1URL: https://www.we-online.com/redexpert/article/890324026018CS?ad; ComponentLink2Description: Datasheet Link; ComponentLink2URL: https://www.we-online.com/redexpert/spec/890324026018CS?ad; Mount: Through Hole; Min Operating Temperature: -40°C; Max Operating Temperature: 105°C; Packaging: Carton; Length: 26mm; Width: 7.5mm; Height: 16.5mm; Capacitance: 560nF; Rated Voltage (AC): 275V
footprint WCAP-FTX2_L26W7.5H16.5
simulation model 890324026018CS_560nF
pins: 1, 2

## 890324026020
designator C?, comment 680nF
WCAP-FTX2 Film Capacitor, THT, L26 x W7.5 x H15mm, 680nF, 275V; Manufacturer Part Number: 890324026020; Manufacturer: Wurth Elektronik; Capacitance Tolerance: +/-10%; Dissipation Factor @1kHz: 0.1%; Dissipation Factor @10kHz: 0.7%; Insulation Resistance: 14.71GΩ; Pitch: 22.5mm; Rate of Voltage Rise: 130V/μs; Technical Reference: MX2P225684K275ASPB45000; Category: Film Capacitors; Match Code: WCAP-FTX2; ComponentLink1Description: Website Link; ComponentLink1URL: https://www.we-online.com/redexpert/article/890324026020?ad; ComponentLink2Description: Datasheet Link; ComponentLink2URL: https://www.we-online.com/redexpert/spec/890324026020?ad; Mount: Through Hole; Min Operating Temperature: -40°C; Max Operating Temperature: 105°C; Packaging: Carton; Length: 26mm; Width: 7.5mm; Height: 15mm; Capacitance: 680nF; Rated Voltage (AC): 275V
footprint WCAP-FTX2_L26W7.5H15
simulation model 890324026020_680nF
pins: 1, 2

## 890324026020CS
designator C?, comment 680nF
WCAP-FTX2 Film Capacitor, THT, L26 x W7.5 x H15mm, 680nF, 275V; Manufacturer Part Number: 890324026020CS; Manufacturer: Wurth Elektronik; Capacitance Tolerance: +/-10%; Dissipation Factor @1kHz: 0.1%; Dissipation Factor @10kHz: 0.7%; Insulation Resistance: 14.71GΩ; Pitch: 22.5mm; Rate of Voltage Rise: 130V/μs; Technical Reference: MX2P225684K275ACPP45004; Category: Film Capacitors; Match Code: WCAP-FTX2; ComponentLink1Description: Website Link; ComponentLink1URL: https://www.we-online.com/redexpert/article/890324026020CS?ad; ComponentLink2Description: Datasheet Link; ComponentLink2URL: https://www.we-online.com/redexpert/spec/890324026020CS?ad; Mount: Through Hole; Min Operating Temperature: -40°C; Max Operating Temperature: 105°C; Packaging: Carton; Length: 26mm; Width: 7.5mm; Height: 15mm; Capacitance: 680nF; Rated Voltage (AC): 275V
footprint WCAP-FTX2_L26W7.5H15
simulation model 890324026020CS_680nF
pins: 1, 2

## 890324026024
designator C?, comment 820nF
WCAP-FTX2 Film Capacitor, THT, L26 x W9 x H18mm, 820nF, 275V; Manufacturer Part Number: 890324026024; Manufacturer: Wurth Elektronik; Capacitance Tolerance: +/-10%; Dissipation Factor @1kHz: 0.1%; Dissipation Factor @10kHz: 0.7%; Insulation Resistance: 12.2GΩ; Pitch: 22.5mm; Rate of Voltage Rise: 160V/μs; Technical Reference: MX2P225824K275ASPB46000; Category: Film Capacitors; Match Code: WCAP-FTX2; ComponentLink1Description: Website Link; ComponentLink1URL: https://www.we-online.com/redexpert/article/890324026024?ad; ComponentLink2Description: Datasheet Link; ComponentLink2URL: https://www.we-online.com/redexpert/spec/890324026024?ad; Mount: Through Hole; Min Operating Temperature: -40°C; Max Operating Temperature: 105°C; Packaging: Carton; Length: 26mm; Width: 9mm; Height: 18mm; Capacitance: 820nF; Rated Voltage (AC): 275V
footprint WCAP-FTX2_L26W9H18
simulation model 890324026024_820nF
pins: 1, 2

## 890324026024CS
designator C?, comment 820nF
WCAP-FTX2 Film Capacitor, THT, L26 x W9 x H18mm, 820nF, 275V; Manufacturer Part Number: 890324026024CS; Manufacturer: Wurth Elektronik; Capacitance Tolerance: +/-10%; Dissipation Factor @1kHz: 0.1%; Dissipation Factor @10kHz: 0.7%; Insulation Resistance: 12.2GΩ; Pitch: 22.5mm; Rate of Voltage Rise: 160V/μs; Technical Reference: MX2P225824K275ACPP36004; Category: Film Capacitors; Match Code: WCAP-FTX2; ComponentLink1Description: Website Link; ComponentLink1URL: https://www.we-online.com/redexpert/article/890324026024CS?ad; ComponentLink2Description: Datasheet Link; ComponentLink2URL: https://www.we-online.com/redexpert/spec/890324026024CS?ad; Mount: Through Hole; Min Operating Temperature: -40°C; Max Operating Temperature: 105°C; Packaging: Carton; Length: 26mm; Width: 9mm; Height: 18mm; Capacitance: 820nF; Rated Voltage (AC): 275V
footprint WCAP-FTX2_L26W9H18
simulation model 890324026024CS_820nF
pins: 1, 2

## 890324026027
designator C?, comment 1μF
WCAP-FTX2 Film Capacitor, THT, L26 x W11 x H20mm, 1μF, 275V; Manufacturer Part Number: 890324026027; Manufacturer: Wurth Elektronik; Capacitance Tolerance: +/-10%; Dissipation Factor @1kHz: 0.1%; Dissipation Factor @10kHz: 0.7%; Insulation Resistance: 10GΩ; Pitch: 22.5mm; Rate of Voltage Rise: 170V/μs; Technical Reference: MX2P225105K275ASPB46000; Category: Film Capacitors; Match Code: WCAP-FTX2; ComponentLink1Description: Website Link; ComponentLink1URL: https://www.we-online.com/redexpert/article/890324026027?ad; ComponentLink2Description: Datasheet Link; ComponentLink2URL: https://www.we-online.com/redexpert/spec/890324026027?ad; Mount: Through Hole; Min Operating Temperature: -40°C; Max Operating Temperature: 105°C; Packaging: Carton; Length: 26mm; Width: 11mm; Height: 20mm; Capacitance: 1μF; Rated Voltage (AC): 275V
footprint WCAP-FTX2_L26W11H20
simulation model 890324026027_1uF
pins: 1, 2

## 890324026027CS
designator C?, comment 1μF
WCAP-FTX2 Film Capacitor, THT, L26 x W11 x H20mm, 1μF, 275V; Manufacturer Part Number: 890324026027CS; Manufacturer: Wurth Elektronik; Capacitance Tolerance: +/-10%; Dissipation Factor @1kHz: 0.1%; Dissipation Factor @10kHz: 0.7%; Insulation Resistance: 10GΩ; Pitch: 22.5mm; Rate of Voltage Rise: 170V/μs; Technical Reference: MX2P225105K275ACPP36004; Category: Film Capacitors; Match Code: WCAP-FTX2; ComponentLink1Description: Website Link; ComponentLink1URL: https://www.we-online.com/redexpert/article/890324026027CS?ad; ComponentLink2Description: Datasheet Link; ComponentLink2URL: https://www.we-online.com/redexpert/spec/890324026027CS?ad; Mount: Through Hole; Min Operating Temperature: -40°C; Max Operating Temperature: 105°C; Packaging: Carton; Length: 26mm; Width: 11mm; Height: 20mm; Capacitance: 1μF; Rated Voltage (AC): 275V
footprint WCAP-FTX2_L26W11H20
simulation model 890324026027CS_1uF
pins: 1, 2

## 890324026030
designator C?, comment 1.5μF
WCAP-FTX2 Film Capacitor, THT, L26 x W10 x H21mm, 1.5μF, 275V; Manufacturer Part Number: 890324026030; Manufacturer: Wurth Elektronik; Capacitance Tolerance: +/-10%; Dissipation Factor @1kHz: 0.1%; Dissipation Factor @10kHz: 0.7%; Insulation Resistance: 6.67GΩ; Pitch: 22.5mm; Rate of Voltage Rise: 140V/μs; Technical Reference: MX2P225155K275ASPB45000; Category: Film Capacitors; Match Code: WCAP-FTX2; ComponentLink1Description: Website Link; ComponentLink1URL: https://www.we-online.com/redexpert/article/890324026030?ad; ComponentLink2Description: Datasheet Link; ComponentLink2URL: https://www.we-online.com/redexpert/spec/890324026030?ad; Mount: Through Hole; Min Operating Temperature: -40°C; Max Operating Temperature: 105°C; Packaging: Carton; Length: 26mm; Width: 10mm; Height: 21mm; Capacitance: 1.5μF; Rated Voltage (AC): 275V
footprint WCAP-FTX2_L26W10H21
simulation model 890324026030_1.5uF
pins: 1, 2

## 890324026030CS
designator C?, comment 1.5μF
WCAP-FTX2 Film Capacitor, THT, L26 x W10 x H21mm, 1.5μF, 275V; Manufacturer Part Number: 890324026030CS; Manufacturer: Wurth Elektronik; Capacitance Tolerance: +/-10%; Dissipation Factor @1kHz: 0.1%; Dissipation Factor @10kHz: 0.7%; Insulation Resistance: 6.67GΩ; Pitch: 22.5mm; Rate of Voltage Rise: 140V/μs; Technical Reference: MX2P225155K275ACPP35004; Category: Film Capacitors; Match Code: WCAP-FTX2; ComponentLink1Description: Website Link; ComponentLink1URL: https://www.we-online.com/redexpert/article/890324026030CS?ad; ComponentLink2Description: Datasheet Link; ComponentLink2URL: https://www.we-online.com/redexpert/spec/890324026030CS?ad; Mount: Through Hole; Min Operating Temperature: -40°C; Max Operating Temperature: 105°C; Packaging: Carton; Length: 26mm; Width: 10mm; Height: 21mm; Capacitance: 1.5μF; Rated Voltage (AC): 275V
footprint WCAP-FTX2_L26W10H21
simulation model 890324026030CS_1.5uF
pins: 1, 2

## 890324026034
designator C?, comment 2.2μF
WCAP-FTX2 Film Capacitor, THT, L26 x W15 x H25mm, 2.2μF, 275V; Manufacturer Part Number: 890324026034; Manufacturer: Wurth Elektronik; Capacitance Tolerance: +/-10%; Dissipation Factor @1kHz: 0.1%; Dissipation Factor @10kHz: 0.7%; Insulation Resistance: 4.55GΩ; Pitch: 22.5mm; Rate of Voltage Rise: 170V/μs; Technical Reference: MX2P225225K275ASPB46000; Category: Film Capacitors; Match Code: WCAP-FTX2; ComponentLink1Description: Website Link; ComponentLink1URL: https://www.we-online.com/redexpert/article/890324026034?ad; ComponentLink2Description: Datasheet Link; ComponentLink2URL: https://www.we-online.com/redexpert/spec/890324026034?ad; Mount: Through Hole; Min Operating Temperature: -40°C; Max Operating Temperature: 105°C; Packaging: Carton; Length: 26mm; Width: 15mm; Height: 25mm; Capacitance: 2.2μF; Rated Voltage (AC): 275V
footprint WCAP-FTX2_L26W15H25
simulation model 890324026034_2.2uF
pins: 1, 2

## 890324026034CS
designator C?, comment 2.2μF
WCAP-FTX2 Film Capacitor, THT, L26 x W15 x H25mm, 2.2μF, 275V; Manufacturer Part Number: 890324026034CS; Manufacturer: Wurth Elektronik; Capacitance Tolerance: +/-10%; Dissipation Factor @1kHz: 0.1%; Dissipation Factor @10kHz: 0.7%; Insulation Resistance: 4.55GΩ; Pitch: 22.5mm; Rate of Voltage Rise: 170V/μs; Technical Reference: MX2P225225K275ACPP26004; Category: Film Capacitors; Match Code: WCAP-FTX2; ComponentLink1Description: Website Link; ComponentLink1URL: https://www.we-online.com/redexpert/article/890324026034CS?ad; ComponentLink2Description: Datasheet Link; ComponentLink2URL: https://www.we-online.com/redexpert/spec/890324026034CS?ad; Mount: Through Hole; Min Operating Temperature: -40°C; Max Operating Temperature: 105°C; Packaging: Carton; Length: 26mm; Width: 15mm; Height: 25mm; Capacitance: 2.2μF; Rated Voltage (AC): 275V
footprint WCAP-FTX2_L26W15H25
simulation model 890324026034CS_2.2uF
pins: 1, 2

## 890324027006
designator C?, comment 680nF
WCAP-FTX2 Film Capacitor, THT, L31 x W10.5 x H20mm, 680nF, 275V; Manufacturer Part Number: 890324027006; Manufacturer: Wurth Elektronik; Capacitance Tolerance: +/-10%; Dissipation Factor @1kHz: 0.1%; Dissipation Factor @10kHz: 0.7%; Insulation Resistance: 14.71GΩ; Pitch: 27.5mm; Rate of Voltage Rise: 170V/μs; Technical Reference: MX2P275684K275ASPB56000; Category: Film Capacitors; Match Code: WCAP-FTX2; ComponentLink1Description: Website Link; ComponentLink1URL: https://www.we-online.com/redexpert/article/890324027006?ad; ComponentLink2Description: Datasheet Link; ComponentLink2URL: https://www.we-online.com/redexpert/spec/890324027006?ad; Mount: Through Hole; Min Operating Temperature: -40°C; Max Operating Temperature: 105°C; Packaging: Carton; Length: 31mm; Width: 10.5mm; Height: 20mm; Capacitance: 680nF; Rated Voltage (AC): 275V
footprint WCAP-FTX2_L31W10.5H20
simulation model 890324027006_680nF
pins: 1, 2

## 890324027006CS
designator C?, comment 680nF
WCAP-FTX2 Film Capacitor, THT, L31 x W10.5 x H20mm, 680nF, 275V; Manufacturer Part Number: 890324027006CS; Manufacturer: Wurth Elektronik; Capacitance Tolerance: +/-10%; Dissipation Factor @1kHz: 0.1%; Dissipation Factor @10kHz: 0.7%; Insulation Resistance: 14.71GΩ; Pitch: 27.5mm; Rate of Voltage Rise: 170V/μs; Technical Reference: MX2P275684K275ACPP36004; Category: Film Capacitors; Match Code: WCAP-FTX2; ComponentLink1Description: Website Link; ComponentLink1URL: https://www.we-online.com/redexpert/article/890324027006CS?ad; ComponentLink2Description: Datasheet Link; ComponentLink2URL: https://www.we-online.com/redexpert/spec/890324027006CS?ad; Mount: Through Hole; Min Operating Temperature: -40°C; Max Operating Temperature: 105°C; Packaging: Carton; Length: 31mm; Width: 10.5mm; Height: 20mm; Capacitance: 680nF; Rated Voltage (AC): 275V
footprint WCAP-FTX2_L31W10.5H20
simulation model 890324027006CS_680nF
pins: 1, 2

## 890324027009
designator C?, comment 1μF
WCAP-FTX2 Film Capacitor, THT, L31 x W8 x H17mm, 1μF, 275V; Manufacturer Part Number: 890324027009; Manufacturer: Wurth Elektronik; Capacitance Tolerance: +/-10%; Dissipation Factor @1kHz: 0.1%; Dissipation Factor @10kHz: 0.7%; Insulation Resistance: 10GΩ; Pitch: 27.5mm; Rate of Voltage Rise: 100V/μs; Technical Reference: MX2P275105K275ASPB55000; Category: Film Capacitors; Match Code: WCAP-FTX2; ComponentLink1Description: Website Link; ComponentLink1URL: https://www.we-online.com/redexpert/article/890324027009?ad; ComponentLink2Description: Datasheet Link; ComponentLink2URL: https://www.we-online.com/redexpert/spec/890324027009?ad; Mount: Through Hole; Min Operating Temperature: -40°C; Max Operating Temperature: 105°C; Packaging: Bulk and Carton; Length: 31mm; Width: 8mm; Height: 17mm; Capacitance: 1μF; Rated Voltage (AC): 275V
footprint WCAP-FTX2_L31W8H17
pins: 1, 2